# EAGLE library part AN7110 (library Audio-Power-amlifier V.2.0)
1,2W AUDIO POWER AMPLIFIER
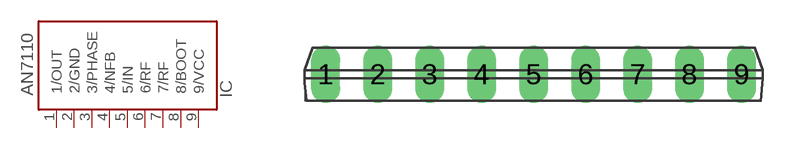
[diagram p139: symbol with the pads of HSIP09-P-0000-2,54; footprint HSIP09-P-0000-2,54]

Designator prefix IC

## AN7110  [HSIP09-P-0000-2,54]
1  1/OUT  out
2  2/GND  pwr
3  3/PHASE
4  4/NFB  in
5  5/IN  in
6  6/RF
7  7/RF
8  8/BOOT
9  9/VCC  pwr

## Footprint HSIP09-P-0000-2,54 (pad centres in mm)
drill 0.9 long: 1 -10.16,0; 2 -7.62,0; 3 -5.08,0; 4 -2.54,0; 5 0,0; 6 2.54,0; 7 5.08,0; 8 7.62,0; 9 10.16,0